# EAGLE library part FT810 (library SW_Display)
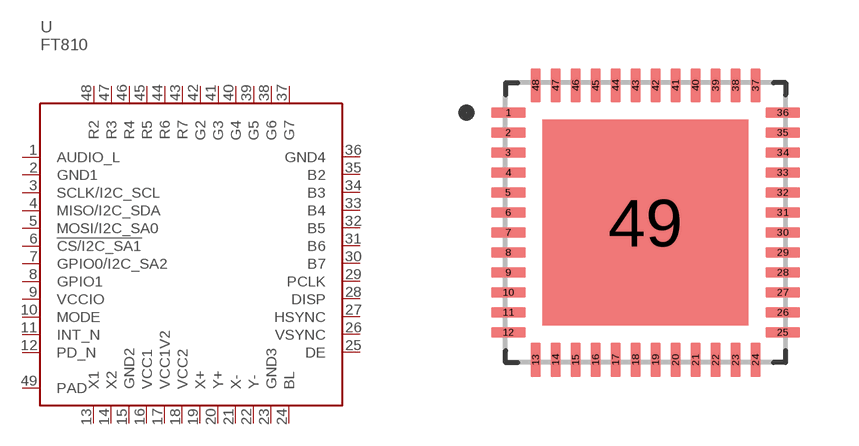
[diagram p1: symbol with the pads of QFN50P700X700X100-49N; footprint QFN50P700X700X100-49N]

Designator prefix U

## FT810 (CATEGORY: Display; DESCRIPTION: IC VIDEO GRAPHIC CNTL 48VQFN; MFGS: Bridgetek Pte Ltd.,Bridgetek Pte Ltd.; MPNS: FT810Q-T,FT810Q-R; PACKAGE: 48-VQFN (7x7); PART_NUMBER: FT810Q)  [QFN50P700X700X100-49N]
1  AUDIO_L
2  GND1
3  SCLK/I2C_SCL
4  MISO/I2C_SDA
5  MOSI/I2C_SA0
6  !CS/I2C_SA1
7  GPIO0/I2C_SA2
8  GPIO1
9  VCCIO
10  MODE
11  INT_N
12  PD_N
13  X1
14  X2
15  GND2
16  VCC1
17  VCC1V2
18  VCC2
19  X+
20  Y+
21  X-
22  Y-
23  GND3
24  BL
25  DE
26  VSYNC
27  HSYNC
28  DISP
29  PCLK
30  B7
31  B6
32  B5
33  B4
34  B3
35  B2
36  GND4
37  G7
38  G6
39  G5
40  G4
41  G3
42  G2
43  R7
44  R6
45  R5
46  R4
47  R3
48  R2
49  PAD

## Footprint QFN50P700X700X100-49N (pad centres in mm)
smd 0.86 x 0.26: 1 -3.435,2.75; 2 -3.435,2.25; 3 -3.435,1.75; 4 -3.435,1.25; 5 -3.435,0.75; 6 -3.435,0.25; 7 -3.435,-0.25; 8 -3.435,-0.75; 9 -3.435,-1.25; 10 -3.435,-1.75; 11 -3.435,-2.25; 12 -3.435,-2.75; 25 3.435,-2.75; 26 3.435,-2.25; 27 3.435,-1.75; 28 3.435,-1.25; 29 3.435,-0.75; 30 3.435,-0.25; 31 3.435,0.25; 32 3.435,0.75; 33 3.435,1.25; 34 3.435,1.75; 35 3.435,2.25; 36 3.435,2.75
smd 0.26 x 0.86: 13 -2.75,-3.435; 14 -2.25,-3.435; 15 -1.75,-3.435; 16 -1.25,-3.435; 17 -0.75,-3.435; 18 -0.25,-3.435; 19 0.25,-3.435; 20 0.75,-3.435; 21 1.25,-3.435; 22 1.75,-3.435; 23 2.25,-3.435; 24 2.75,-3.435; 37 2.75,3.435; 38 2.25,3.435; 39 1.75,3.435; 40 1.25,3.435; 41 0.75,3.435; 42 0.25,3.435; 43 -0.25,3.435; 44 -0.75,3.435; 45 -1.25,3.435; 46 -1.75,3.435; 47 -2.25,3.435; 48 -2.75,3.435
smd 5.15 x 5.15: 49 0,0